# EAGLE library part ATM13-4P-BM02 (library ATM13-4P-BM02)
Automotive Connectors RA Flng Mnt PCB Rcpt 4POS Gry Gld Cont Source: Datasheet <https://www.amphenol-industrial.de/en/amph/download/getMime/YXRtMTMtNHAtYm0wMi1jZHIucGRm>
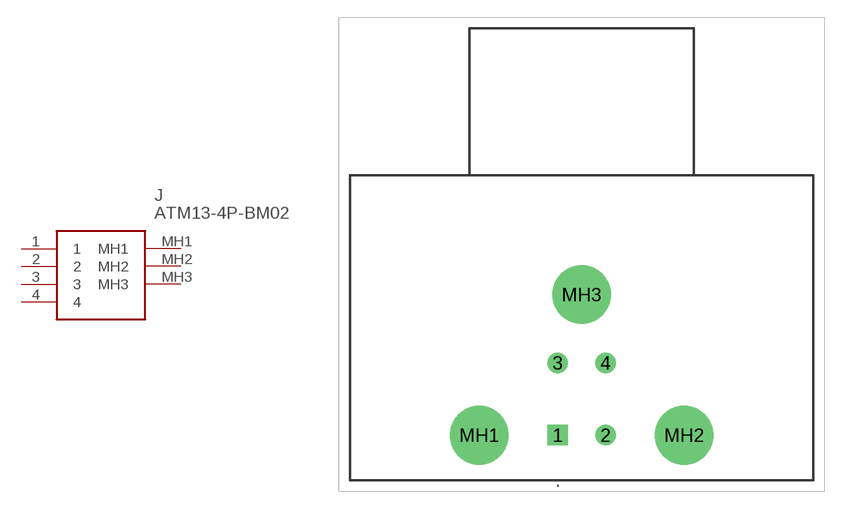
[diagram p0: symbol with the pads of ATM134PBM02; footprint ATM134PBM02]

Designator prefix J

## ATM13-4P-BM02 (Arrow_Part_Number: ATM13-4P-BM02; Arrow_Price-Stock: https://www.arrow.com/en/products/atm13-4p-bm02/amphenol?region=nac; Description: Automotive Connectors RA Flng Mnt PCB Rcpt 4POS Gry Gld Cont; Height: 33.4mm; Manufacturer_Name: Amphenol; Manufacturer_Part_Number: ATM13-4P-BM02; Mouser_Part_Number: 654-ATM13-4P-BM02; Mouser_Price-Stock: https://www.mouser.co.uk/ProductDetail/Amphenol-SINE-Systems/ATM13-4P-BM02?qs=0lSvoLzn4L8TNire0wHiew%3D%3D)  [ATM134PBM02]
1  1
2  2
3  3
4  4
MH1  MH1
MH2  MH2
MH3  MH3

## Footprint ATM134PBM02 (pad centres in mm)
ATM13-4P-BM02-4
drill 1.2 pad 1.8 square: 1 0,0
drill 1.2 pad 1.8: 2 4.2,0; 3 0,6.35; 4 4.2,6.35
drill 3.43 pad 5.145: MH1 -6.91,0; MH2 11.11,0; MH3 2.1,12.35